# EAGLE library part 2MM-1X8-M (library J-precidip-880-2mm)
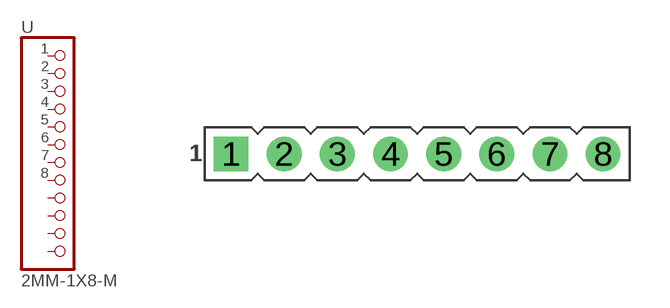
[diagram p0: symbol with the pads of CF-2MM-1X8-PRECIDIP-880; footprint CF-2MM-1X8-PRECIDIP-880]

Designator prefix -

## 2MM-1X8-M  [CF-2MM-1X8-PRECIDIP-880]
1  1  pas
2  2  pas
3  3  pas
4  4  pas
5  5  pas
6  6  pas
7  7  pas
8  8  pas

## Footprint CF-2MM-1X8-PRECIDIP-880 (pad centres in mm)
Pin Header, 1x8, 2.00mm, Through Hole Preci-Dip pn: 880-70-008-10-001101
drill 0.8 square: 1 0,0
drill 0.8: 2 2,0; 3 4,0; 4 6,0; 5 8,0; 6 10,0; 7 12,0; 8 14,0